# Altium schematic symbol library SCH - CONNECTORS - WE 653005117322.Schlib: 1 symbol
Pins are listed as number, name and electrical type; pins without a type are passive.

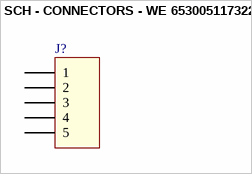
[diagram p0: symbol SCH - CONNECTORS - WE 653005117322]

## SCH - CONNECTORS - WE 653005117322
designator J?
footprint 653005117322 (1.25mm Male Horizontal Shrouded Header, 5p)
pins: 1, 2, 3, 4, 5